# Altium footprint library DO1813.PcbLib: 1 footprints
Each footprint in its own frame and in the unit in brackets; x right, y up, seen from the top. Pads: shape width x height; smd on the part's side, far side on the other; paste and mask are expansions set on the pad; w line width, h text height; cw(c..) or ccw(c..) is an arc to the next point about the centre after c.
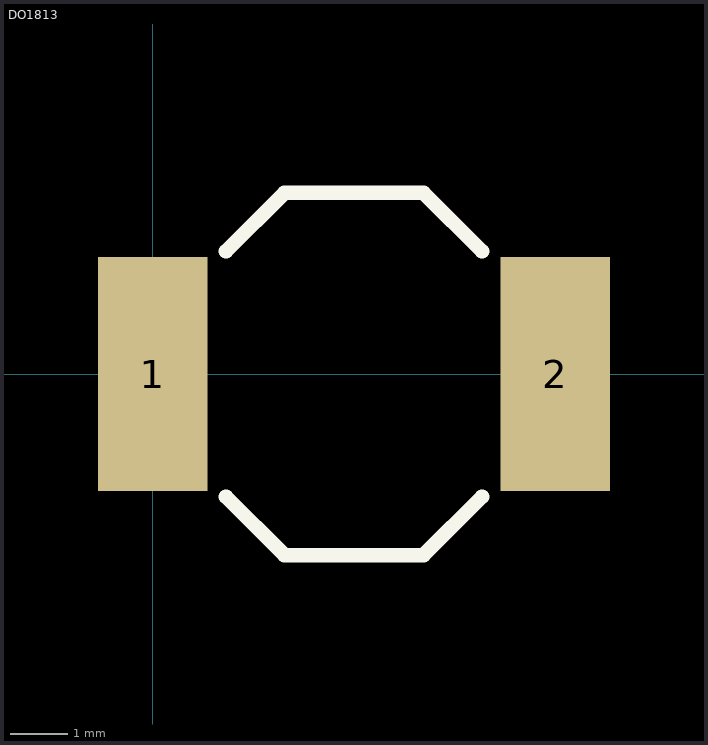
[diagram p0: the footprint, top view; thin cyan lines are the x and y axes]

## DO1813 [mil]
height 197
pads (2):
  rect 75x160 smd: 1(0,0) 2(275,0)
TopOverlay:
  lines w10: 50,-84 90,-124 185,-124 225,-84 ; 50,84 90,124 185,124 225,84
Mechanical4:
  text ".075" at 0,0 h1
3D body: height 197, standoff 0, extent -37.38,-119.34 312.7,120.17